# Altium schematic symbol library PBL - Test Points.SCHLIB: 4 symbols
Pins are listed as number, name and electrical type; pins without a type are passive.

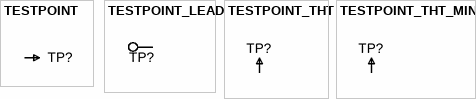
[diagram p0: symbols TESTPOINT to TESTPOINT_THT_MINI]

## TESTPOINT
designator TP?  (value not drawn)  (no BOM)
SMD test pin
footprint TP-R60
footprint THP_D38_T75_B75 (Thru-Hole Pad with 75mil top and 75mil bottom annular rings)
footprint TP-R30
footprint TP-R40
footprint TP-R20
pins: 1

## TESTPOINT_LEAD
designator TP?  (no BOM)
TEST POINT
footprint THP_D46_T80_B80 (Footprint not found)
pins: 1

## TESTPOINT_THT
designator TP?  (value not drawn)
Test Point PCB mount Multi-purpose Yellow; Manufacturer 1: Keystone Electronics; Manufacturer Part Number 1: 5014; PBL Part Number: 3100-xxx; Description 1: TEST POINT PC MULTI PURPOSE YEL; Supplier 1: Digi-Key; Supplier Part Number 1: 5014K-ND; Mounting Type: 0.063" (1.600mm) Hole Diameter; Material: Base, Nylon 46, UL 94V-0
footprint TP-THT-MULTI (Thru-hole test point loop)
pins: 1

## TESTPOINT_THT_MINI
designator TP?  (value not drawn)
Test Point PCB mount Miniature White; PBL Part Number: 3100-567; Manufacturer 1: Keystone Electronics; Manufacturer Part Number 1: 5002; Mounting Type: 0.040" (1.0mm) Hole Diameter; Material: Base, Nylon 46, UL 94V-0; Supplier 1: Digi-Key; Supplier Part Number 1: 5002K-ND
footprint TP-THT-MINI (Thru-hole test point loop)
pins: 1